# Altium integrated library HDSP-H103.IntLib: 1 symbol
Pins are listed as number, name and electrical type; pins without a type are passive.

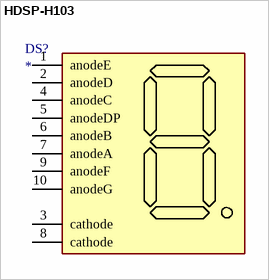
[diagram p0: symbol HDSP-H103]

## HDSP-H103
designator DS?
Display
footprint HDSP-H103
pins: 1 anodeE, 2 anodeD, 3 cathode, 4 anodeC, 5 anodeDP, 6 anodeB, 7 anodeA, 8 cathode, 9 anodeF, 10 anodeG